# Altium footprint library Footprint.PcbLib: 122 footprints (part 6 of 8)
Each footprint in its own frame and in the unit in brackets; x right, y up, seen from the top. Pads: shape width x height; smd on the part's side, far side on the other; paste and mask are expansions set on the pad; w line width, h text height; cw(c..) or ccw(c..) is an arc to the next point about the centre after c.
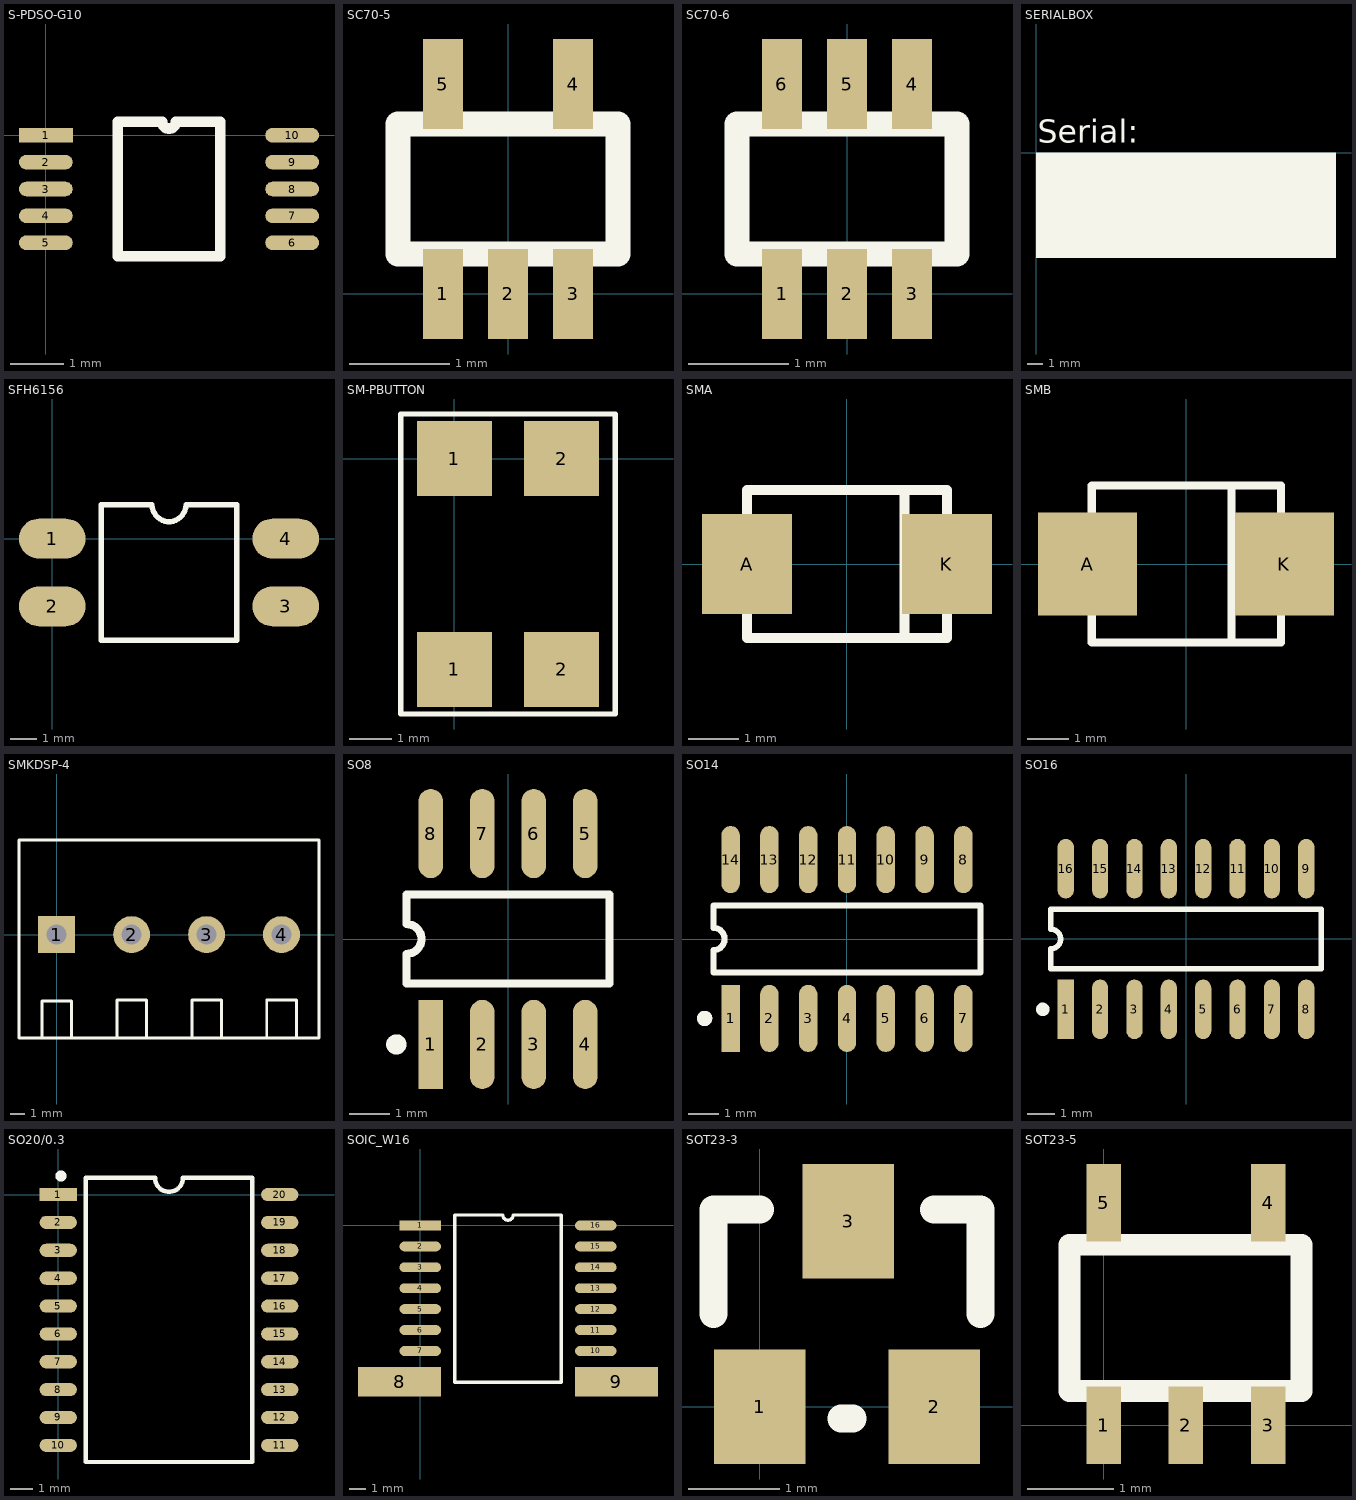
[diagram p5: the footprints below, top view; thin cyan lines are the x and y axes]

## S-PDSO-G10 [mm]
pads (10):
  rect 1x0.27 smd: 1(0,0)
  oval 1x0.27 smd: 2(0,-0.5) 3(0,-1) 4(0,-1.5) 5(0,-2) 6(4.58,-2) 7(4.58,-1.5) 8(4.58,-1) 9(4.58,-0.5) 10(4.58,0)
TopOverlay:
  lines w0.2: 1.335,-2.25 1.335,0.25 2.165,0.25 ccw(c2.29,0.25) 2.415,0.25 3.245,0.25 3.245,-2.25 1.335,-2.25

## SC70-5 [mm] "Equiv. to SC88-A, SOT-353"
pads (5):
  rect 0.4x0.9 smd: 1(-0.65,0) 2(0,0) 3(0.65,0) 4(0.65,2.1) 5(-0.65,2.1)
TopOverlay:
  lines w0.254: -1.1,0.4 1.1,0.4 1.1,1.7 -1.1,1.7 -1.1,0.4

## SC70-6 [mm]
pads (6):
  rect 0.4x0.9 smd: 1(-0.65,0) 2(0,0) 3(0.65,0) 4(0.65,2.1) 5(0,2.1) 6(-0.65,2.1)
TopOverlay:
  lines w0.254: -1.1,0.4 1.1,0.4 1.1,1.7 -1.1,1.7 -1.1,0.4

## SERIALBOX [mm]
TopOverlay:
  rectangle: 0,-7 19.95,0
  text "Serial:" at 0.1,0.65 h1.52

## SFH6156 [mm]
pads (4):
  oval 2.5x1.5 smd: 1(0,0) 2(0,-2.54) 3(8.75,-2.54) 4(8.75,0)
TopOverlay:
  lines w0.2: 1.835,-3.81 6.915,-3.81 6.915,1.27 5.01,1.27 cw(c4.375,1.27) 3.74,1.27 1.835,1.27 1.835,-3.81

## SM-PBUTTON [mm]
pads (4):
  rect 1.78x1.78 smd: 1(0,-5) 1(0,0) 2(2.54,-5) 2(2.54,0)
TopOverlay:
  lines w0.127: -1.27,-6.056 -1.27,1.056 3.81,1.056 3.81,-6.056 -1.27,-6.056

## SMA [mm]
pads (2):
  rect 1.8x2 smd: A(-2,0) K(2,0)
TopOverlay:
  lines w0.2: 1.15,-1.475 1.15,0 1.15,1.475 ; -2,-1.475 -2,0 -2,1.475 2,1.475 2,0 2,-1.475 -2,-1.475

## SMB [mm]
pads (2):
  rect 2.4x2.5 smd: A(-2.385,0) K(2.385,0)
TopOverlay:
  lines w0.2: 1.1,-1.9 1.1,1.9 ; -2.285,-1.9 2.3,-1.9 2.3,1.9 -2.285,1.9 -2.285,0 -2.285,-1.9

## SMKDSP-4 [mm] "screw terminals"
pads (4):
  rect 2.5x2.5 hole 1.35: 1(0,0)
  round 2.5 hole 1.35: 2(5.08,0) 3(10.16,0) 4(15.24,0)
TopOverlay:
  lines w0.2: -1,-7 -1,-4.5 1,-4.5 1,-7 ; 4.08,-6.93 4.08,-4.43 6.08,-4.43 6.08,-6.93 ; 9.16,-6.93 9.16,-4.43 11.16,-4.43 11.16,-6.93 ; 14.24,-6.93 14.24,-4.43 16.24,-4.43 16.24,-6.93 ; -2.55,-7 17.78,-7 17.78,6.4 -2.55,6.4 -2.55,-7

## SO8 [mm]
pads (8):
  rect 0.6x2.2 smd: 1(-1.905,-2.6)
  oval 0.6x2.2 smd: 2(-0.635,-2.6) 3(0.635,-2.6) 4(1.905,-2.6) 5(1.905,2.6) 6(0.635,2.6) 7(-0.635,2.6) 8(-1.905,2.6)
TopOverlay:
  circle w0.25: c-2.755,-2.6 r0.125
  lines w0.2: -2.5,-1.1 2.5,-1.1 2.5,1.1 -2.5,1.1 -2.5,0.367 cw(c-2.5,0) -2.5,-0.367 -2.5,-1.1

## SO14 [mm]
pads (14):
  rect 0.6x2.2 smd: 1(-3.81,-2.6)
  oval 0.6x2.2 smd: 2(-2.54,-2.6) 3(-1.27,-2.6) 4(0,-2.6) 5(1.27,-2.6) 6(2.54,-2.6) 7(3.81,-2.6) 8(3.81,2.6) 9(2.54,2.6) 10(1.27,2.6) 11(0,2.6) 12(-1.27,2.6) 13(-2.54,2.6) 14(-3.81,2.6)
TopOverlay:
  circle w0.25: c-4.66,-2.6 r0.125
  lines w0.2: -4.375,-1.1 -4.375,-0.367 ccw(c-4.375,0) -4.375,0.367 -4.375,1.1 4.375,1.1 4.375,-1.1 -4.375,-1.1

## SO16 [mm]
pads (16):
  rect 0.6x2.2 smd: 1(-4.445,-2.6)
  oval 0.6x2.2 smd: 2(-3.175,-2.6) 3(-1.905,-2.6) 4(-0.635,-2.6) 5(0.635,-2.6) 6(1.905,-2.6) 7(3.175,-2.6) 8(4.445,-2.6) 9(4.445,2.6) 10(3.175,2.6) 11(1.905,2.6) 12(0.635,2.6) 13(-0.635,2.6) 14(-1.905,2.6) 15(-3.175,2.6) 16(-4.445,2.6)
TopOverlay:
  circle w0.25: c-5.295,-2.6 r0.125
  lines w0.2: -5,-1.1 5,-1.1 5,1.1 -5,1.1 -5,0.367 cw(c-5,0) -5,-0.367 -5,-1.1

## SO20/0.3 [mm]
pads (20):
  rect 1.7x0.6 smd: 1(0,0)
  oval 1.7x0.6 smd: 2(0,-1.27) 3(0,-2.54) 4(0,-3.81) 5(0,-5.08) 6(0,-6.35) 7(0,-7.62) 8(0,-8.89) 9(0,-10.16) 10(0,-11.43) 11(10.1,-11.43) 12(10.1,-10.16) 13(10.1,-8.89) 14(10.1,-7.62) 15(10.1,-6.35) 16(10.1,-5.08) 17(10.1,-3.81) 18(10.1,-2.54) 19(10.1,-1.27) 20(10.1,0)
TopOverlay:
  circle w0.25: c0.125,0.85 r0.125
  lines w0.2: 1.25,-12.19 1.25,0.76 4.415,0.76 ccw(c5.05,0.76) 5.685,0.76 8.85,0.76 8.85,-12.19 1.25,-12.19

## SOIC_W16 [mm]
pads (16):
  rect 2.52x0.6 smd: 1(0,0)
  oval 2.52x0.6 smd: 2(0,-1.27) 3(0,-2.54) 4(0,-3.81) 5(0,-5.08) 6(0,-6.35) 7(0,-7.62) 10(10.65,-7.62) 11(10.65,-6.35) 12(10.65,-5.08) 13(10.65,-3.81) 14(10.65,-2.54) 15(10.65,-1.27) 16(10.65,0)
  rect 5.04x1.8 smd: 8(-1.26,-9.49) 9(11.91,-9.49)
TopOverlay:
  lines w0.2: 2.095,-9.525 2.095,0.635 5.007,0.635 ccw(c5.325,0.635) 5.642,0.635 8.555,0.635 8.555,-9.525 2.095,-9.525

## SOT23-3 [mm]
pads (3):
  rect 1x1.25 smd: 1(0,0) 2(1.905,0) 3(0.965,2.032)
TopOverlay:
  lines w0.305: -0.508,1.016 -0.508,2.159 0,2.159 ; 0.889,-0.127 1.016,-0.127 ; 1.905,2.159 2.413,2.159 2.413,1.016

## SOT23-5 [mm]
pads (5):
  rect 0.4x0.9 smd: 1(0,0) 2(0.953,0) 3(1.91,0) 4(1.91,2.59) 5(0,2.59)
TopOverlay:
  lines w0.254: -0.4,0.4 2.3,0.4 2.3,2.1 -0.4,2.1 -0.4,0.4